# EAGLE library part 74AHCT32 (library Mine)
Quad 2 input Or Gate The 74AHC32; 74AHCT32 provides the 2-input OR function.
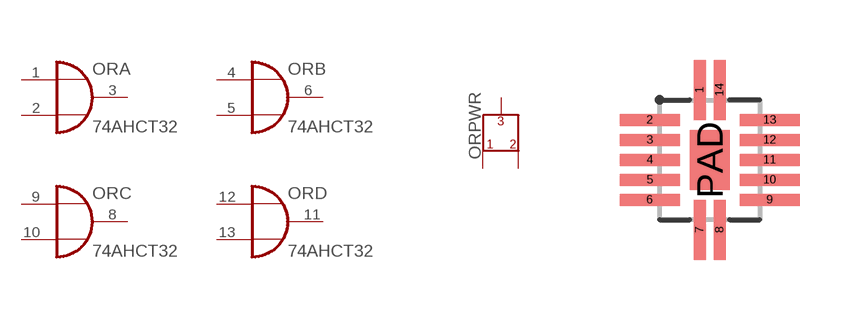
[diagram p7: symbol with the pads of DHVQFN14; footprint DHVQFN14]

Designator prefix OR; gates A=OR_GATE B=OR_GATE C=OR_GATE D=OR_GATE PWR=TRI_PIN

## 74AHCT32  [DHVQFN14]
1  A:I0  in
2  A:I1  in
3  A:O  out
4  B:I0  in
5  B:I1  in
6  B:O  out
7  PWR:1
8  C:O  out
9  C:I0  in
10  C:I1  in
11  D:O  out
12  D:I0  in
13  D:I1  in
14  PWR:3
PAD  PWR:2

## Footprint DHVQFN14 (pad centres in mm)
smd 0.3 x 1.5: 1 -0.25,1.75; 7 -0.25,-1.75; 8 0.25,-1.75; 14 0.25,1.75
smd 1.5 x 0.3: 2 -1.5,1; 3 -1.5,0.5; 4 -1.5,0; 5 -1.5,-0.5; 6 -1.5,-1; 9 1.5,-1; 10 1.5,-0.5; 11 1.5,0; 12 1.5,0.5; 13 1.5,1
smd 1 x 1.5: PAD 0,0